# EAGLE library part UB-M5BR-S14 (library con-usb)
mini-B Receptacle, JST
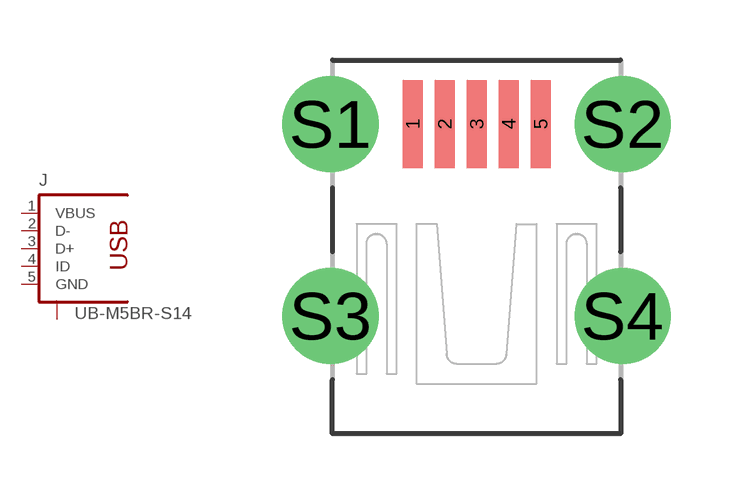
[diagram p4: symbol with the pads of UB-M5BR-S14; footprint UB-M5BR-S14]

Designator prefix J

## UB-M5BR-S14  [UB-M5BR-S14]
1  VBUS  pas
2  D-  pas
3  D+  pas
4  ID  pas
5  GND  pas
S1  S  pas
S2  S  pas
S3  S  pas
S4  S  pas

## Footprint UB-M5BR-S14 (pad centres in mm)
JST - UB series mini-B Type SMT/Through-hole mount
smd 0.5 x 2.2: 1 -1.6,0; 2 -0.8,0; 3 0,0; 4 0.8,0; 5 1.6,0
drill 1.6: S1 -3.65,0; S2 3.65,0; S3 -3.65,-4.8; S4 3.65,-4.8